# Altium schematic symbol library lcd_resistive_touch_driver.SchLib: 9 symbols
Pins are listed as number, name and electrical type; pins without a type are passive.

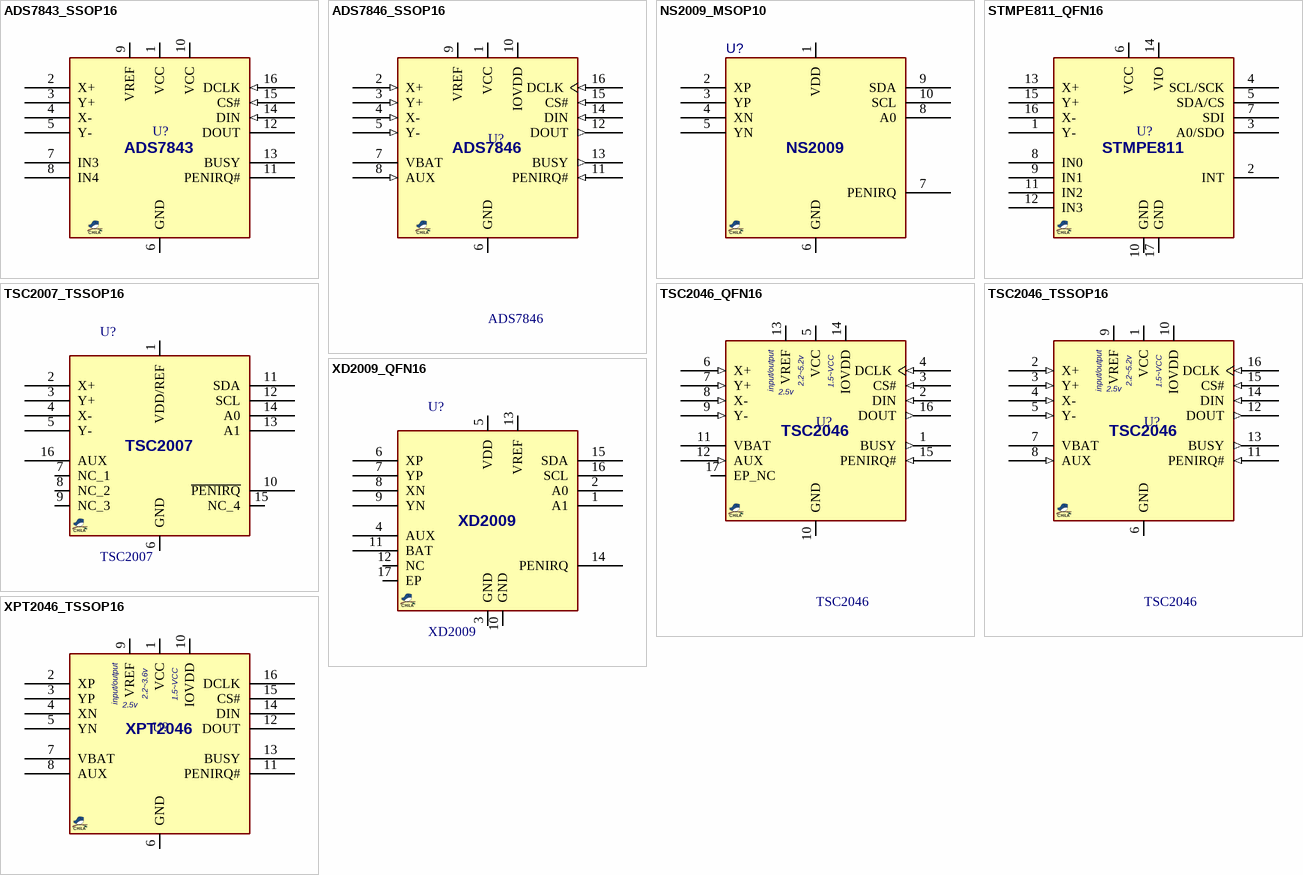
[diagram p0: symbols ADS7843_SSOP16 to XPT2046_TSSOP16]

## ADS7843_SSOP16
designator U?, comment ADS7843  (value not drawn)
LCD, Touch Screen Controller, 4Wire, 8/12Bit; MANF: Texas Instruments; MANF_P#: ADS7843E; PARAM2: 2.7~5V; PARAM: -40~85°C; VALUE: ADS7843
footprint SOG63_16 (SOP DBQ, QSOP, 16-Leads, Body 4.90x3.90mm, Pitch 0.635mm)
pins: 1 VCC (power) "Power Supply, 2.7V to 5V.", 2 X+ (hiz) "X+ Position Input. ADC input Channel 1.", 3 Y+ (hiz) "Y+ Position Input. ADC input Channel 2.", 4 X- (hiz) "X- Position Input.", 5 Y- (hiz) "Y- Position Input.", 6 GND (power) "Ground", 7 IN3 (hiz) "Auxiliary Input 1. ADC input Channel 3.", 8 IN4 (hiz) "Auxiliary Input 2. ADC input Channel 4.", 9 VREF (power) "Voltage Reference Input", 10 VCC (power) "Power Supply, 2.7V to 5V.", 11 PENIRQ# (oc) "Pen Interrupt. Open anode output (requires 10kOhm  to 100kOhm pull-up resistor externally).", 12 DOUT (hiz) "Serial Data Output. Data is shifted on the falling  edge of DCLK. This output is high impedance  when CS is HIGH", 13 BUSY (hiz) "Busy Output. This output is high impedance when  CS is HIGH", 14 DIN (in) "Serial Data Input. If CS is LOW, data is latched on  rising edge of DCLK", 15 CS# (in) "Chip Select Input. Controls conversion timing and  enables the serial input/output register", 16 DCLK (in) "External Clock Input. This clock runs the SAR conversion  process and synchronizes serial data I/O."

## ADS7846_SSOP16
designator U?, comment ADS7846
LCD, Touch screen controller, 4-WIRE, resistive; MANF: Texas Instruments; MANF_P#: ADS7846E; PARAM2: 2.2~5.25VCC, 1.5~5.25VIO; PARAM: 12Bit, 125KHz, resistive; VALUE: ADS7846
footprint SOG65_16 (PW TSSOP (TI), MO-153-AB (JEDEC), 16Lead, pitch: 0.65mm, 5x4.4x1.2mm)
pins: 1 VCC (power), 2 X+ (in), 3 Y+ (in), 4 X- (in), 5 Y- (in), 6 GND (power), 7 VBAT, 8 AUX (in), 9 VREF (power), 10 IOVDD (power), 11 PENIRQ# (in), 12 DOUT (out), 13 BUSY (out), 14 DIN (in), 15 CS# (in), 16 DCLK (in)

## NS2009_MSOP10
designator U?, comment NS2009  (value not drawn)
LCD, Touch Screen Controller, 12Bit, I2C, MSOP-10; MANF: NSWAY; PARAM2: 2~5.5V; PARAM: I²C, 12Bit, -40~85℃; MANF_P#: NS2009; PRICE: 1.5$; VALUE: NS2009
footprint SOG50_10 (MSSOP10, 3X3mm 0.5mm pitch, DGS, MSOP10, 10uSOP/usop10 (Dallas), MO-187BA(JEDEC))
pins: 1 VDD, 2 XP, 3 YP, 4 XN, 5 YN, 6 GND, 7 PENIRQ, 8 A0, 9 SDA, 10 SCL

## STMPE811_QFN16
designator U?, comment STMPE811  (value not drawn)
LCD resistive touch panel driver; MANF: ST; MANF_P#: STMPE811Q; PARAM2: 1.8~3.3v; PRICE: 0.6$; VALUE: STMPE811
footprint QFN50_16T_3X3 (RGT PVQFN (TI), 16-lead, pitch: 0.5mm, 3x3mm)
pins: 1 Y-, 2 INT, 3 A0/SDO, 4 SCL/SCK, 5 SDA/CS, 6 VCC, 7 SDI, 8 IN0, 9 IN1, 10 GND, 11 IN2, 12 IN3, 13 X+, 14 VIO, 15 Y+, 16 X-, 17 GND

## TSC2007_TSSOP16
designator U?, comment TSC2007
LCD, Touch Screen Controller, 12Bit, I2C, 16TSSOP; MANF: Texas Instruments; MANF_P#: TSC2007IPW; PARAM2: 1.2~3.6V; PARAM: I²C, Serial, 10kbps, 12Bit, 4-Wire; PRICE: 1.5$; VALUE: TSC2007
footprint SOG65_16 (PW TSSOP (TI), MO-153-AB (JEDEC), 16Lead, pitch: 0.65mm, 5x4.4x1.2mm)
pins: 1 VDD/REF, 2 X+, 3 Y+, 4 X-, 5 Y-, 6 GND, 7 NC_1, 8 NC_2, 9 NC_3, 10 ~{PENIRQ}, 11 SDA, 12 SCL, 13 A1, 14 A0, 15 NC_4, 16 AUX

## TSC2046_QFN16
designator U?, comment TSC2046
LCD, Touch screen controller, 4-WIRE, resistive; DIST#: same pinout ADS7846; MANF: Texas Instruments; MANF_P#: TSC2046EIRGV; PARAM2: 2.2~5.25VCC, 1.5~5.25VIO; PARAM: 12Bit, 125KHz, resistive; PRICE: 0.6$; VALUE: TSC2046
footprint QFN65_16T (QFN, RGV, CP -16-23, LFCSP_WQ, 4X4mm, 0.65mm, MO-220 VGGC WGGC-4(JEDEC))
pins: 1 BUSY (out), 2 DIN (in), 3 CS# (in), 4 DCLK (in), 5 VCC (power), 6 X+ (in), 7 Y+ (in), 8 X- (in), 9 Y- (in), 10 GND (power), 11 VBAT, 12 AUX (in), 13 VREF (power), 14 IOVDD (power), 15 PENIRQ# (in), 16 DOUT (out), 17 EP_NC (power)
text: input/output; 2.2~5.2v; 1.5~VCC; 2.5v

## TSC2046_TSSOP16
designator U?, comment TSC2046
LCD, Touch screen controller, 4-WIRE, resistive; DIST#: same pinout ADS7846; MANF: Texas Instruments; MANF_P#: TSC2046IPW, TSC2046EIPW; PARAM2: 2.2~5.25VCC, 1.5~5.25VIO; PARAM: 12Bit, 125KHz, resistive; PRICE: 0.8$; VALUE: TSC2046
footprint SOG65_16 (PW TSSOP (TI), MO-153-AB (JEDEC), 16Lead, pitch: 0.65mm, 5x4.4x1.2mm)
pins: 1 VCC (power), 2 X+ (in), 3 Y+ (in), 4 X- (in), 5 Y- (in), 6 GND (power), 7 VBAT, 8 AUX (in), 9 VREF (power), 10 IOVDD (power), 11 PENIRQ# (in), 12 DOUT (out), 13 BUSY (out), 14 DIN (in), 15 CS# (in), 16 DCLK (in)
text: input/output; 2.2~5.2v; 1.5~VCC; 2.5v

## XD2009_QFN16
designator U?, comment XD2009
LCD, Touch Screen Controller, 12Bit, I2C, QFN-16; MANF: NSWAY; PARAM2: 2~5.5V; PARAM: I²C, 12Bit, -40~85℃; MANF_P#: XD2009; PRICE: 1.5$; VALUE: XD2009
footprint QFN50_16T_3X3 (RGT PVQFN (TI), 16-lead, pitch: 0.5mm, 3x3mm)
pins: 1 A1, 2 A0, 3 GND, 4 AUX, 5 VDD, 6 XP, 7 YP, 8 XN, 9 YN, 10 GND, 11 BAT, 12 NC, 13 VREF, 14 PENIRQ, 15 SDA, 16 SCL, 17 EP

## XPT2046_TSSOP16
designator U?, comment XPT2046  (value not drawn)
LCD, Touch screen controller, resistive, 4-wire; MANF: XPT; PARAM2: 2.2~3.6VCC, VIO: 1.5~VCC; PARAM: 12Bit, 125KHz; MANF_P#: XPT2046; PRICE: 0.4$; VALUE: XPT2046
footprint SOG65_16 (PW TSSOP (TI), MO-153-AB (JEDEC), 16Lead, pitch: 0.65mm, 5x4.4x1.2mm)
pins: 1 VCC, 2 XP, 3 YP, 4 XN, 5 YN, 6 GND, 7 VBAT, 8 AUX, 9 VREF, 10 IOVDD, 11 PENIRQ#, 12 DOUT, 13 BUSY, 14 DIN, 15 CS#, 16 DCLK
text: input/output; 2.2~3.6v; 1.5~VCC; 2.5v